# EAGLE library part NHD-0216XZ-FSW-GBW (library NHD-0216XZ-FSW-GBW)
LCD Character Display Modules & Accessories STN- GRAY Transfl 80.0 x 36.0 Source: Datasheet <http://www.newhavendisplay.com/specs/NHD-0216XZ-FSW-GBW.pdf>
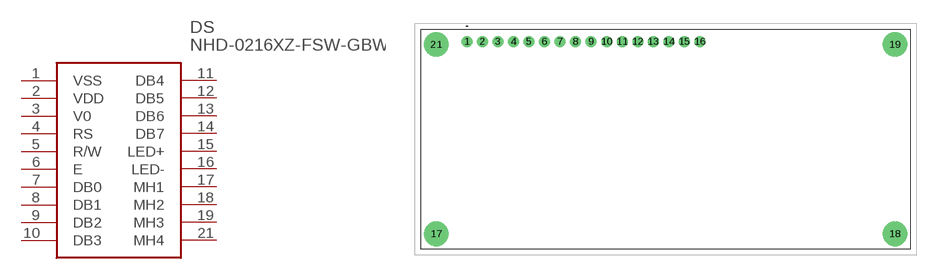
[diagram p0: symbol with the pads of NHD0216XZFSWGBW; footprint NHD0216XZFSWGBW]

Designator prefix DS

## NHD-0216XZ-FSW-GBW (Description: LCD Character Display Modules & Accessories STN- GRAY Transfl 80.0 x 36.0; Height: 7mm; Manufacturer_Name: Newhaven Display; Manufacturer_Part_Number: NHD-0216XZ-FSW-GBW; Mouser_Part_Number: 763-0216XZ-FSW-GBW; Mouser_Price-Stock: https://www.mouser.co.uk/ProductDetail/Newhaven-Display/NHD-0216XZ-FSW-GBW?qs=y17bYx%2F8gvgtCaLgQaS5Rw%3D%3D)  [NHD0216XZFSWGBW]
1  VSS
2  VDD
3  V0
4  RS
5  R/W
6  E
7  DB0
8  DB1
9  DB2
10  DB3
11  DB4
12  DB5
13  DB6
14  DB7
15  LED+
16  LED-
17  MH1
18  MH2
19  MH3
21  MH4

## Footprint NHD0216XZFSWGBW (pad centres in mm)
NHD-0216XZ-FSW-GBW
drill 1.2 pad 1.8: 1 -32.5,16; 2 -29.96,16; 3 -27.42,16; 4 -24.88,16; 5 -22.34,16; 6 -19.8,16; 7 -17.26,16; 8 -14.72,16; 9 -12.18,16; 10 -9.64,16; 11 -7.1,16; 12 -4.56,16; 13 -2.02,16; 14 0.52,16; 15 3.06,16; 16 5.6,16
drill 2.7 pad 4.05: 17 -37.5,-15.5; 18 37.5,-15.5; 19 37.5,15.5; 21 -37.5,15.5